# Altium footprint library capacitor(10uf).PcbLib: 1 footprints
Each footprint in its own frame and in the unit in brackets; x right, y up, seen from the top. Pads: shape width x height; smd on the part's side, far side on the other; paste and mask are expansions set on the pad; w line width, h text height; cw(c..) or ccw(c..) is an arc to the next point about the centre after c.
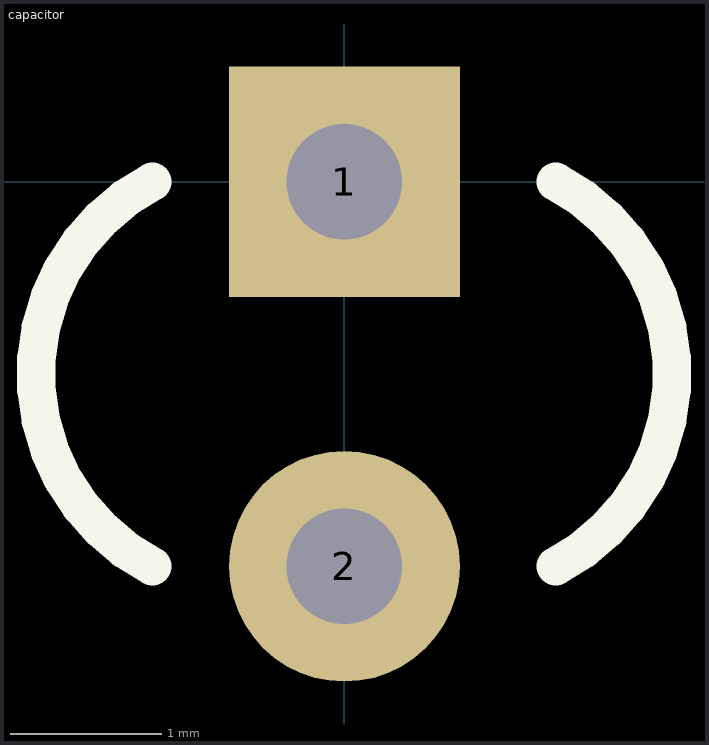
[diagram p0: the footprint, top view; thin cyan lines are the x and y axes]

## capacitor [mil] "10uf"
pads (2):
  rect 60x60 hole 30: 1(0,0)
  round 60 hole 30: 2(0,-100)
Top Overlay:
  lines w10: -50,-100 cw(c-23.75,-50) -50,0 ; 55,-100 ccw(c28.75,-50) 55,0